# Altium footprint library Button - Slide.PcbLib: 1 footprints
Each footprint in its own frame and in the unit in brackets; x right, y up, seen from the top. Pads: shape width x height; smd on the part's side, far side on the other; paste and mask are expansions set on the pad; w line width, h text height; cw(c..) or ccw(c..) is an arc to the next point about the centre after c.
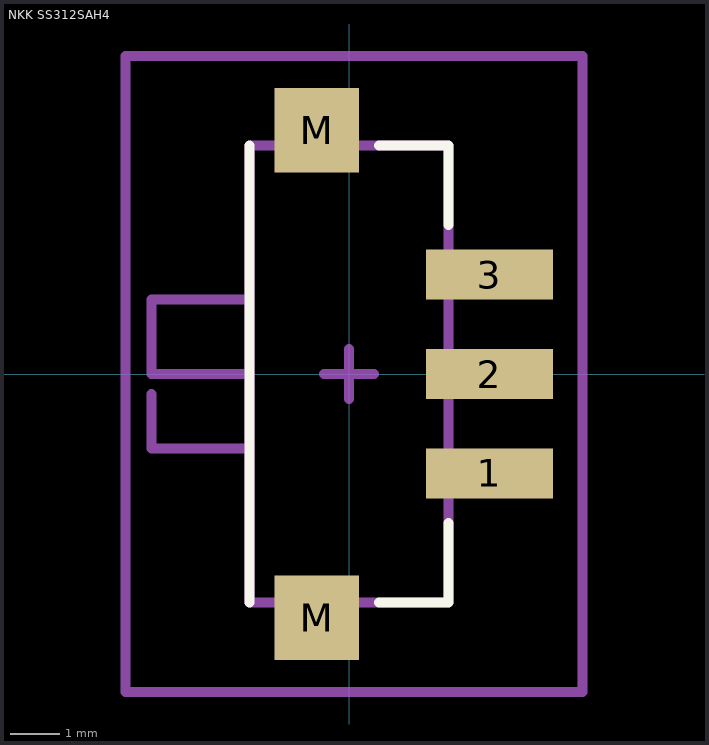
[diagram p0: the footprint, top view; thin cyan lines are the x and y axes]

## NKK SS312SAH4 [mm]
height 2.9
pads (5):
  rect 2.55x1 smd: 1(2.825,-2) 2(2.825,0) 3(2.825,2)
  rect 1.7x1.7 smd: M(-0.65,-4.9) M(-0.65,4.9)
Top Overlay:
  lines w0.2: -2,-4.6 -2,4.6 ; 0.6,-4.6 2,-4.6 2,-3 ; 0.6,4.6 2,4.6 2,3
Mechanical 1:
  lines w0.2: -3.976,-0.4 -3.976,-1.5 -2,-1.5 ; -2,0 -3.976,0 -3.976,1.5 -2,1.5 ; -2,-4.6 -2,4.6 2,4.6 2,-4.6 -2,-4.6
Mechanical 15:
  lines w0.2: -0.5,0 0.5,0 ; 0,-0.5 0,0.5 ; -4.5,-6.4 -4.5,6.4 4.7,6.4 4.7,-6.4 -4.5,-6.4
3D body "NKK SS312SAH4.STEP": height 2.9, standoff -0.15, extent -3.976,-5.245 3.416,5.245